# EAGLE library part ERM8-037-01-D-RA (library con-samtec-er8)
ERM8 Series - Male Right Angle Edge Mount
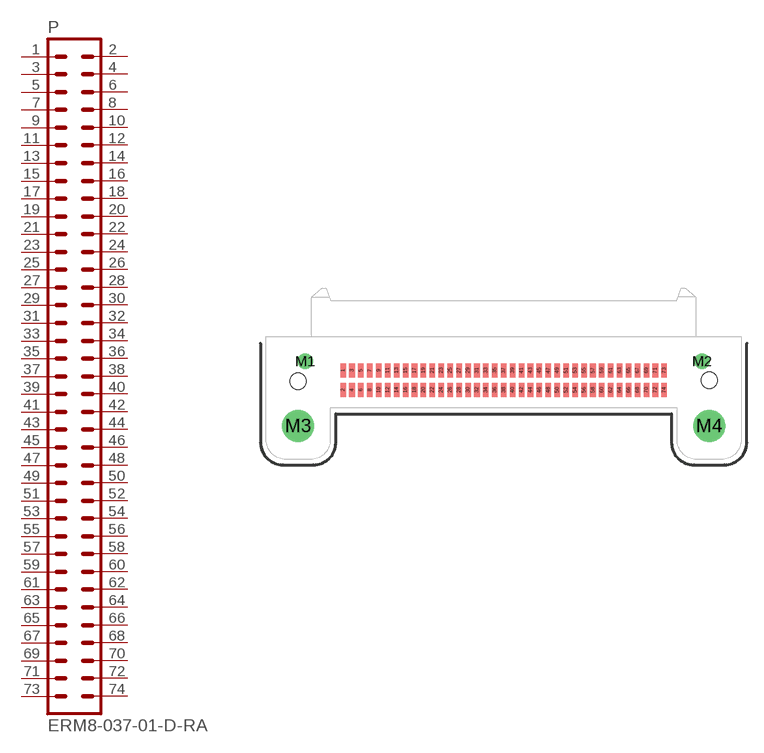
[diagram p39: symbol with the pads of ERM8-037-01-D-RA; footprint ERM8-037-01-D-RA]

Designator prefix P

## ERM8-037-01-D-RA  [ERM8-037-01-D-RA]
1  1  pas
2  2  pas
3  3  pas
4  4  pas
5  5  pas
6  6  pas
7  7  pas
8  8  pas
9  9  pas
10  10  pas
11  11  pas
12  12  pas
13  13  pas
14  14  pas
15  15  pas
16  16  pas
17  17  pas
18  18  pas
19  19  pas
20  20  pas
21  21  pas
22  22  pas
23  23  pas
24  24  pas
25  25  pas
26  26  pas
27  27  pas
28  28  pas
29  29  pas
30  30  pas
31  31  pas
32  32  pas
33  33  pas
34  34  pas
35  35  pas
36  36  pas
37  37  pas
38  38  pas
39  39  pas
40  40  pas
41  41  pas
42  42  pas
43  43  pas
44  44  pas
45  45  pas
46  46  pas
47  47  pas
48  48  pas
49  49  pas
50  50  pas
51  51  pas
52  52  pas
53  53  pas
54  54  pas
55  55  pas
56  56  pas
57  57  pas
58  58  pas
59  59  pas
60  60  pas
61  61  pas
62  62  pas
63  63  pas
64  64  pas
65  65  pas
66  66  pas
67  67  pas
68  68  pas
69  69  pas
70  70  pas
71  71  pas
72  72  pas
73  73  pas
74  74  pas

## Footprint ERM8-037-01-D-RA (pad centres in mm)
0.8mm Edge Rate Terminal Assembly MALE, Right Angle Double Row, 37 Position
smd 0.5 x 1.25: 1 -14.4,0.875; 2 -14.4,-0.875; 3 -13.6,0.875; 4 -13.6,-0.875; 5 -12.8,0.875; 6 -12.8,-0.875; 7 -12,0.875; 8 -12,-0.875; 9 -11.2,0.875; 10 -11.2,-0.875; 11 -10.4,0.875; 12 -10.4,-0.875; 13 -9.6,0.875; 14 -9.6,-0.875; 15 -8.8,0.875; 16 -8.8,-0.875; 17 -8,0.875; 18 -8,-0.875; 19 -7.2,0.875; 20 -7.2,-0.875; 21 -6.4,0.875; 22 -6.4,-0.875; 23 -5.6,0.875; 24 -5.6,-0.875; 25 -4.8,0.875; 26 -4.8,-0.875; 27 -4,0.875; 28 -4,-0.875; 29 -3.2,0.875; 30 -3.2,-0.875; 31 -2.4,0.875; 32 -2.4,-0.875; 33 -1.6,0.875; 34 -1.6,-0.875; 35 -0.8,0.875; 36 -0.8,-0.875; 37 0,0.875; 38 0,-0.875; 39 0.8,0.875; 40 0.8,-0.875; 41 1.6,0.875; 42 1.6,-0.875; 43 2.4,0.875; 44 2.4,-0.875; 45 3.2,0.875; 46 3.2,-0.875; 47 4,0.875; 48 4,-0.875; 49 4.8,0.875; 50 4.8,-0.875; 51 5.6,0.875; 52 5.6,-0.875; 53 6.4,0.875; 54 6.4,-0.875; 55 7.2,0.875; 56 7.2,-0.875; 57 8,0.875; 58 8,-0.875; 59 8.8,0.875; 60 8.8,-0.875; 61 9.6,0.875; 62 9.6,-0.875; 63 10.4,0.875; 64 10.4,-0.875; 65 11.2,0.875; 66 11.2,-0.875; 67 12,0.875; 68 12,-0.875; 69 12.8,0.875; 70 12.8,-0.875; 71 13.6,0.875; 72 13.6,-0.875; 73 14.4,0.875; 74 14.4,-0.875
drill 0.7 pad 1.4: M1 -17.8,1.69; M2 17.8,1.69
drill 1.91 pad 2.5: M3 -18.425,-4.09; M4 18.425,-4.09
hole 1.45 at -18.425,-0.09
hole 1.45 at 18.425,0